# Altium schematic symbol library DIP SW 4P.SchLib: 1 symbol
Pins are listed as number, name and electrical type; pins without a type are passive.

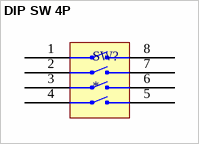
[diagram p0: symbol DIP SW 4P]

## DIP SW 4P
designator SW?
pins: 1 GND, 2 GND, 3 GND, 4 GND, 5, 6, 7, 8